# Altium footprint library Lödöron_19.PcbLib: 2 footprints
Each footprint in its own frame and in the unit in brackets; x right, y up, seen from the top. Pads: shape width x height; smd on the part's side, far side on the other; paste and mask are expansions set on the pad; w line width, h text height; cw(c..) or ccw(c..) is an arc to the next point about the centre after c.
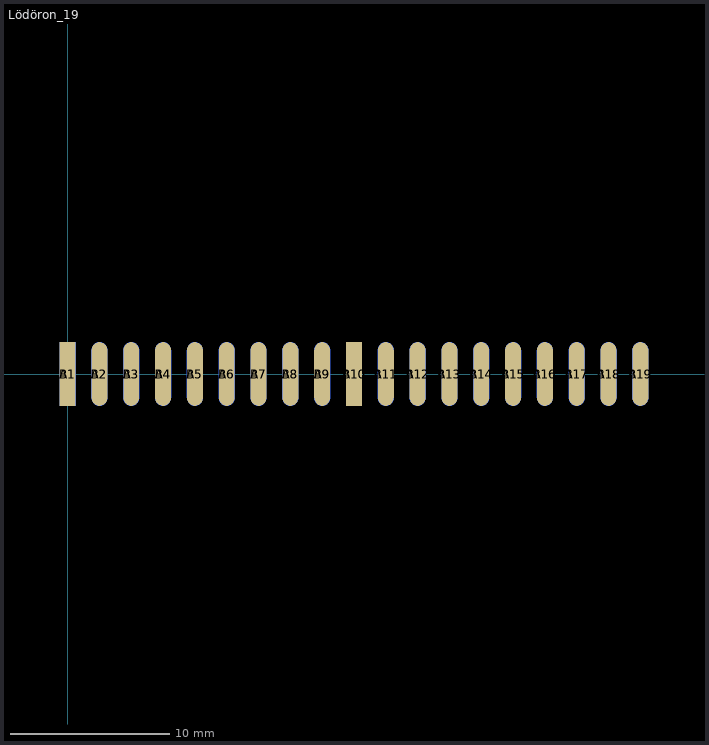
[diagram p0: the footprints below, top view; thin cyan lines are the x and y axes]

## Lödöron_19 [mm]
pads (38):
  rect 1x4 smd: A1(0,0) A10(18,0)
  oval 1x4 smd: A2(2,0) A3(4,0) A4(6,0) A5(8,0) A6(10,0) A7(12,0) A8(14,0) A9(16,0) A11(20,0) A12(22,0) A13(24,0) A14(26,0) A15(28,0) A16(30,0) A17(32,0) A18(34,0) A19(36,0)
  rect 1x4 smd far side: B1(0,0) B10(18,0)
  oval 1x4 smd far side: B2(2,0) B3(4,0) B4(6,0) B5(8,0) B6(10,0) B7(12,0) B8(14,0) B9(16,0) B11(20,0) B12(22,0) B13(24,0) B14(26,0) B15(28,0) B16(30,0) B17(32,0) B18(34,0) B19(36,0)

## PCBComponent_1 [mm]